# EAGLE library part 691305130007 (library Wurth_Connectors_WR-TBL Pluggable Connector)
WR-TBL Serie 3051 - 3.50 mm Vertical PCB Header KIND PROPERTIES Pitch 3.5 mm MATERIAL PROPERTIES Insulator Material PA66 Insulator Flammability Rating UL94 V-0 Insulator Color Green Contact Material Copper Alloy Contact Plating Tin GENERAL INFORMATION Operating Temperature -40 up to +105 °C Compliance Lead free / RoHS ELECTRICAL PROPERTIES IR UL 12 A Working Voltage [UL] 300 V (AC) Withstanding Voltage [UL] 2500 V (AC) Contact Resistance 20 mΩ CERTIFICATION UL Approval E315414 <https://katalog.we-online.com/media/images/v2/o84262v209%20Family_WR-TBL3_6913051300xx.jpg> Details see: https://katalog.we-online.com/en/em/TBL_3_50_3051_VERTICAL_PCB_HEADER_6913051300xx Updated by Ella Wu 2019-12-18 2022(C) Wurth Elektronik
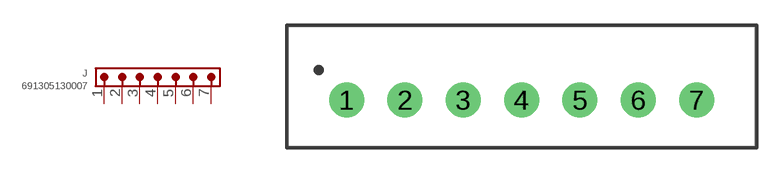
[diagram p124: symbol with the pads of 691305130007; footprint 691305130007]

Designator prefix J

## 691305130007 (DATASHEET-URL: https://www.we-online.com/redexpert/spec/691305130007?ae; IR-UL: 12A; MOUNT: THT; PART-NUMBER: 691305130007; PINS: 7; PITCH: 3.5mm; TYPE: Vertical; VALUE: 691305130007; WORKING-VOLTAGE-UL: 300V (AC))  [691305130007]
1  1  pas
2  2  pas
3  3  pas
4  4  pas
5  5  pas
6  6  pas
7  7  pas

## Footprint 691305130007 (pad centres in mm)
WR-TBL Serie 3051 - 3.50 mm Vertical PCB Header Max Height = 9.2mm , Pitch 3.5mm , 7pins
drill 1.4: 1 -10.5,0; 2 -7,0; 3 -3.5,0; 4 0,0; 5 3.5,0; 6 7,0; 7 10.5,0